# Altium footprint library PcbLib1.PcbLib: 21 footprints (part 1 of 2)
Each footprint in its own frame and in the unit in brackets; x right, y up, seen from the top. Pads: shape width x height; smd on the part's side, far side on the other; paste and mask are expansions set on the pad; w line width, h text height; cw(c..) or ccw(c..) is an arc to the next point about the centre after c.
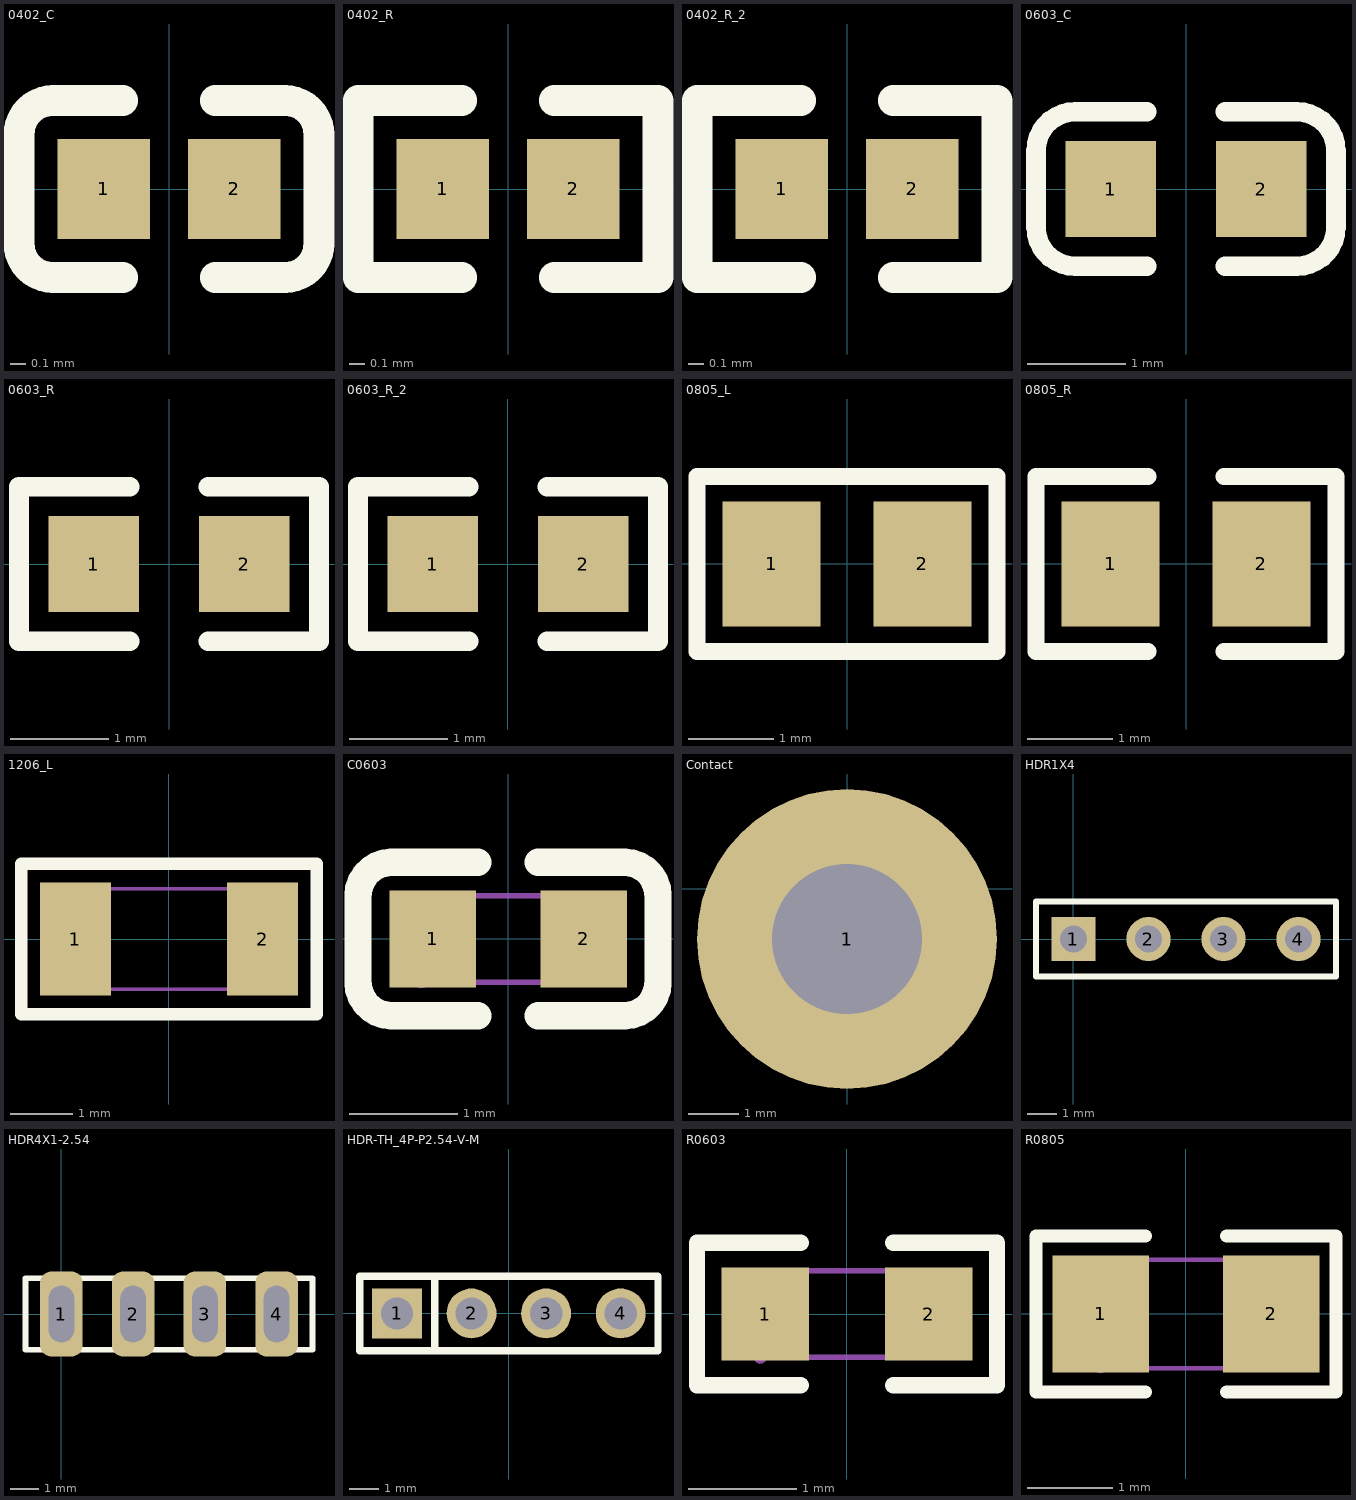
[diagram p0: the footprints below, top view; thin cyan lines are the x and y axes]

## 0402_C [mm]
height 1.6
pads (2):
  rect 0.6x0.65 smd mask+0.051: 1(-0.425,0) 2(0.425,0)
Top Overlay:
  lines w0.2: -0.755,-0.575 cw(c-0.755,-0.355) -0.975,-0.355 -0.975,0.355 cw(c-0.755,0.355) -0.755,0.575 ; -0.75,-0.575 -0.3,-0.575 ; -0.75,0.575 -0.3,0.575 ; 0.3,-0.575 0.75,-0.575 ; 0.3,0.575 0.75,0.575 ; 0.755,-0.575 ccw(c0.755,-0.355) 0.975,-0.355 0.975,0.355 ccw(c0.755,0.355) 0.755,0.575
3D body "0402 SMD Capacitor.step": height 0.2, standoff 0, extent -0.483,-0.3 0.518,0.3

## 0402_R [mm]
height 1.6
pads (2):
  rect 0.6x0.65 smd mask+0.051: 1(-0.425,0) 2(0.425,0)
Top Overlay:
  lines w0.2: -0.3,-0.575 -0.975,-0.575 -0.975,0.575 -0.3,0.575 ; 0.3,-0.575 0.975,-0.575 0.975,0.575 0.3,0.575
3D body "User Library-RES_1005-0402.STEP": height 0.41, standoff 0, extent -0.575,-0.275 0.575,0.275

## 0402_R_2 [mm]
pads (2):
  rect 0.6x0.65 smd mask+0.051: 1(-0.425,0) 2(0.425,0)
Top Overlay:
  lines w0.2: -0.3,-0.575 -0.975,-0.575 -0.975,0.575 -0.3,0.575 ; 0.3,-0.575 0.975,-0.575 0.975,0.575 0.3,0.575
3D body "User Library-RES_1005-0402.STEP": height 0.41, standoff 0, extent -0.575,-0.275 0.575,0.275

## 0603_C [mm]
height 1.6
pads (2):
  rect 0.93x0.98 smd: 1(-0.77,0) 2(0.77,0)
Top Overlay:
  lines w0.2: -0.4,-0.79 -1.135,-0.79 cw(c-1.135,-0.39) -1.535,-0.39 -1.535,0.39 cw(c-1.135,0.39) -1.135,0.79 -0.4,0.79 ; 0.4,-0.79 1.135,-0.79 ccw(c1.135,-0.39) 1.535,-0.39 1.535,0.39 ccw(c1.135,0.39) 1.135,0.79 0.4,0.79
3D body "User Library-0603 SMD Capacitor.STEP": height 0.3, standoff 0, extent -0.8,-0.4 0.8,0.4

## 0603_R [mm]
height 1.6
pads (2):
  rect 0.93x0.98 smd: 1(-0.77,0) 2(0.77,0)
Top Overlay:
  lines w0.2: -0.4,-0.79 -1.535,-0.79 -1.535,0.79 -0.4,0.79 ; 0.4,-0.79 1.535,-0.79 1.535,0.79 0.4,0.79
3D body "User Library-RES_1609-0603.STEP": height 0.56, standoff 0, extent -0.85,-0.4 0.85,0.4

## 0603_R_2 [mm]
pads (2):
  rect 0.93x0.98 smd: 1(-0.77,0) 2(0.77,0)
Top Overlay:
  lines w0.2: -0.4,-0.79 -1.535,-0.79 -1.535,0.79 -0.4,0.79 ; 0.4,-0.79 1.535,-0.79 1.535,0.79 0.4,0.79
3D body "User Library-RES_1609-0603.STEP": height 0.56, standoff 0, extent -0.85,-0.4 0.85,0.4

## 0805_L [mm]
pads (2):
  rect 1.16x1.47 smd: 1(-0.89,0) 2(0.89,0)
Top Overlay:
  lines w0.2: -1.77,-1.035 -1.77,1.035 1.77,1.035 1.77,-1.035 -1.77,-1.035
3D body "L0805.STEP": height 0.6, standoff -0.02, extent -1.022,-0.637 1.028,0.638

## 0805_R [mm]
height 20
pads (2):
  rect 1.16x1.47 smd: 1(-0.89,0) 2(0.89,0)
Top Overlay:
  lines w0.2: -0.45,-1.035 -1.77,-1.035 -1.77,1.035 -0.45,1.035 ; 0.45,-1.035 1.77,-1.035 1.77,1.035 0.45,1.035
3D body "User Library-R_0805.STEP": height 0.49, standoff -0.01, extent -0.997,-0.625 1.003,0.625

## 1206_L [mm]
pads (2):
  rect 1.13x1.8 smd: 1(-1.49,0) 2(1.49,0)
Top Overlay:
  lines w0.2: -2.355,-1.2 -2.355,1.2 2.355,1.2 2.355,-1.2 -2.355,-1.2
Mechanical 13:
  lines w0.05: -1.6,-0.8 -1.6,0.8 1.6,0.8 1.6,-0.8 -1.6,-0.8

## C0603 [mil]
pads (2):
  rect 31.5x35.4 smd: 1(-27.5,0) 2(27.6,0)
Top Overlay:
  lines w10: -11,-28 -42.5,-28 -45.2,-27.7 -47.8,-26.8 -50.1,-25.3 -52,-23.4 -53.5,-21.1 -54.4,-18.5 -54.7,-15.8 -54.7,15.7 -54.4,18.4 -53.5,21 -52,23.3 -50.1,25.2 -47.8,26.7 -45.2,27.6 -42.5,27.9 -11,27.9 ; 11.1,-28 42.6,-28 ; 11.1,27.9 42.6,27.9 ; 42.5,-28 45.3,-27.7 47.8,-26.8 50.2,-25.3 52.1,-23.4 53.5,-21.1 54.4,-18.5 54.7,-15.8 54.7,15.7 54.4,18.4 53.5,21 52.1,23.3 50.2,25.2 47.8,26.7 45.3,27.6 42.5,27.9
Mechanical 6:
  lines w2: -31.5,-15.8 -31.5,15.7 31.5,15.7 31.5,-15.8 -31.5,-15.8
Mechanical 8:
  region: -29.1,-15.8 -29.5,-17.1 -30.5,-17.9 -31.8,-18.1 -33,-17.6 -33.7,-16.5 -33.7,-15.1 -33,-14 -31.8,-13.5 -30.5,-13.6 -29.5,-14.5
Mechanical 9:
  region: -31.5,-15.8 -31.5,15.7 -19.7,15.7 -19.7,-15.8
  region: 31.5,-15.8 31.5,15.7 19.7,15.7 19.7,-15.8

## Contact [mm]
height 1.6
pads (1):
  round 6 hole 3: 1(0,-1)

## HDR1X4 [mm] "Connector; Header; 4 Position"
height 1.6
pads (4):
  rect 1.5x1.5 hole 0.9: 1(0,0)
  round 1.5 hole 0.9: 2(2.54,0) 3(5.08,0) 4(7.62,0)
Top Overlay:
  lines w0.2: -1.27,-1.27 -1.27,1.27 8.89,1.27 8.89,-1.27 -1.27,-1.27

## HDR4X1-2.54 [mm] "2.54单排针排座"
height 1.6
pads (4):
  rrect50% 1.5x3 hole 0.9 slot 2 at 90 deg: 1(0,0) 2(2.54,0) 3(5.08,0) 4(7.62,0)
Top Overlay:
  lines w0.2: -1.27,-1.27 -1.27,1.27 8.89,1.27 8.89,-1.27 -1.27,-1.27

## HDR-TH_4P-P2.54-V-M [mm]
pads (4):
  rect 1.699x1.699 hole 1.1: 1(-3.81,0)
  round 1.699 hole 1.1: 2(-1.27,0) 3(1.27,0) 4(3.81,0)
Top Overlay:
  lines w0.254: -2.517,-1.27 -2.517,1.27 ; -2.517,1.27 5.08,1.27 5.08,-1.27 -5.08,-1.27 -5.08,1.27 -2.517,1.27
Mechanical 6:
  lines w0.051: -5.08,-1.25 -5.08,1.25 5.08,1.25 5.08,-1.25 -5.08,-1.25
Mechanical 8:
  region: -5.022,-1.25 -5.032,-1.283 -5.057,-1.306 -5.09,-1.311 -5.121,-1.295 -5.138,-1.267 -5.138,-1.234 -5.121,-1.206 -5.09,-1.191 -5.057,-1.196 -5.032,-1.219
Mechanical 9:
  region: -4.13,0.32 -3.49,0.32 -3.49,-0.32 -4.13,-0.32
  region: -1.59,0.32 -0.95,0.32 -0.95,-0.32 -1.59,-0.32
  region: 0.95,0.32 1.59,0.32 1.59,-0.32 0.95,-0.32
  region: 3.49,0.32 4.13,0.32 4.13,-0.32 3.49,-0.32

## R0603 [mil]
pads (2):
  rect 31.8x34 smd paste-3937 mask+2: 1(-29.6,0) 2(29.7,0)
Top Overlay:
  lines w6: -16.7,-26 -54.5,-26 -54.5,26 -16.7,26 ; 16.8,-26 54.6,-26 54.6,26 16.8,26
Top Paste:
  region: 47.1,17.7 15.6,17.7 13.6,15.8 13.6,6.8 28.2,6.8 28.2,-6.2 13.6,-6.2 13.6,-15.7 15.6,-17.7 47.1,-17.7 49,-15.7 49,15.8
  region: -47,-17.7 -15.5,-17.7 -13.6,-15.7 -13.6,-6.8 -28.1,-6.8 -28.1,6.2 -13.6,6.2 -13.6,15.8 -15.5,17.7 -47,17.7 -49,15.8 -49,-15.7
Mechanical 6:
  lines w2: -31.5,-15.7 -31.5,15.8 31.5,15.8 31.5,-15.7 -31.5,-15.7
Mechanical 8:
  region: -29.1,-15.7 -29.5,-17 -30.5,-17.9 -31.8,-18.1 -33,-17.5 -33.7,-16.4 -33.7,-15.1 -33,-14 -31.8,-13.4 -30.5,-13.6 -29.5,-14.5
Mechanical 9:
  region: -31.5,-15.7 -31.5,15.8 -19.7,15.8 -19.7,-15.7
  region: 31.5,-15.7 31.5,15.8 19.7,15.8 19.7,-15.7

## R0805 [mm]
pads (2):
  rect 1.133x1.377 smd paste-100 mask+0.051: 1(-0.998,0) 2(1.001,0)
Top Overlay:
  lines w0.152: -0.475,-0.917 -1.76,-0.917 -1.76,0.917 -0.475,0.917 ; 0.478,-0.917 1.763,-0.917 1.763,0.917 0.478,0.917
Top Paste:
  region: 0.452,-0.64 0.452,-0.221 0.897,-0.221 0.897,0.231 0.457,0.231 0.452,0.64 0.5,0.691 1.651,0.691 1.702,0.64 1.702,-0.64 1.651,-0.691 0.5,-0.691
  region: -1.699,-0.64 -1.699,0.64 -1.648,0.691 -0.498,0.691 -0.45,0.64 -0.445,0.231 -0.894,0.231 -0.894,-0.221 -0.455,-0.221 -0.45,-0.64 -0.498,-0.691 -1.648,-0.691
Mechanical 6:
  lines w0.051: -0.998,-0.638 1.001,-0.638 1.001,0.638 -0.998,0.638 -0.998,-0.638
Mechanical 8:
  region: -0.94,-0.638 -0.947,-0.671 -0.975,-0.691 -1.008,-0.696 -1.039,-0.683 -1.057,-0.655 -1.057,-0.62 -1.039,-0.592 -1.008,-0.579 -0.975,-0.582 -0.947,-0.605
Mechanical 9:
  region: 1.001,-0.638 1.001,0.638 0.602,0.638 0.602,-0.638
  region: -0.998,-0.638 -0.998,0.638 -0.599,0.638 -0.599,-0.638